# Altium footprint library POT_SMD.PcbLib: 7 footprints
Each footprint in its own frame and in the unit in brackets; x right, y up, seen from the top. Pads: shape width x height; smd on the part's side, far side on the other; paste and mask are expansions set on the pad; w line width, h text height; cw(c..) or ccw(c..) is an arc to the next point about the centre after c.
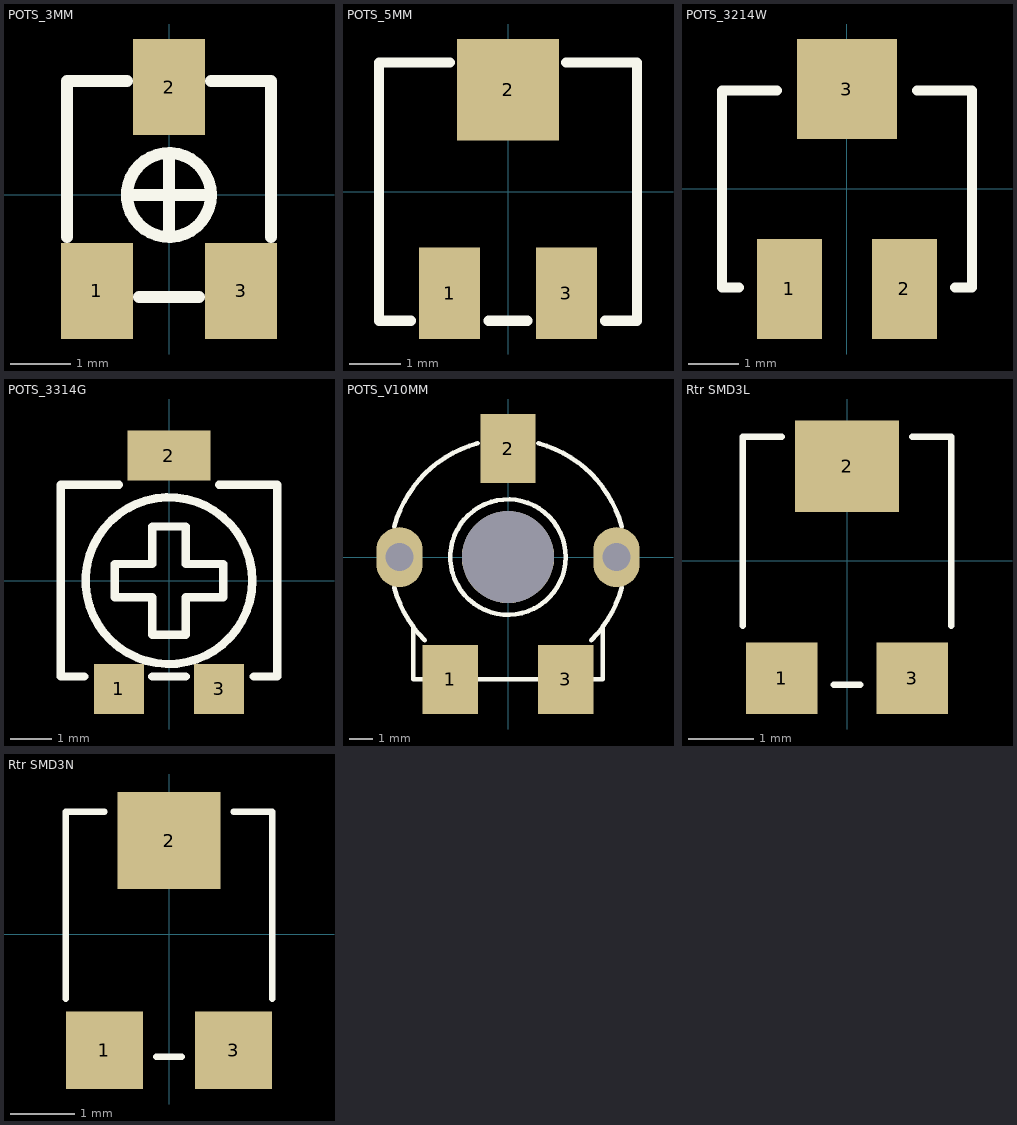
[diagram p0: the footprints below, top view; thin cyan lines are the x and y axes]

## POTS_3MM [mm] "POT SMD, 3.0X3.0mm, Trimming PVG3A PVZ3A"
pads (3):
  rect 1.2x1.6 smd: 1(-1.2,-1.6) 2(0,1.8) 3(1.2,-1.6)
Top Overlay:
  circle w0.2: c0,0 r0.7
  lines w0.2: -1.7,-0.7 -1.7,1.9 -0.7,1.9 ; -0.7,0 0.7,0 ; -0.5,-1.7 0.5,-1.7 ; 0,-0.7 0,0.7 ; 0.7,1.9 1.7,1.9 1.7,-0.7
3D body "User Library-PVZ3A.STEP": height 1.95, standoff 0, extent -1.55,-1.85 1.55,1.84

## POTS_5MM [mm] "POT SMD, 5.0X5.0mm, Trimming PVG5H"
pads (3):
  rect 1.2x1.8 smd: 1(-1.15,-2) 3(1.15,-2)
  rect 2x2 smd: 2(0,2)
Top Overlay:
  lines w0.2: -1.905,-2.54 -2.54,-2.54 -2.54,2.54 -1.143,2.54 ; -0.381,-2.54 0.381,-2.54 ; 1.143,2.54 2.54,2.54 2.54,-2.54 1.905,-2.54
3D body "User Library-PVG5H.STEP": height 3.7, standoff 0, extent -2.4,-2.55 2.4,2.55

## POTS_3214W [mm] "POT SMD, 4.0X5.0mm, Trimming SM-42/43W 3214W"
pads (3):
  rect 1.3x2 smd: 1(-1.15,-2) 2(1.15,-2)
  rect 2x2 smd: 3(0,2)
Top Overlay:
  lines w0.2: -2.159,-1.97 -2.5,-1.97 -2.5,1.97 -1.397,1.97 ; 1.397,1.97 2.5,1.97 2.5,-1.97 2.159,-1.97
3D body "SW3dPS-Pot 3214.STEP": height 5.4, standoff 0, extent -2.4,-1.97 2.4,1.97

## POTS_3314G [mm] "POT SMD, 5.0X5.0mm, Trimming, 3314G"
pads (3):
  rect 1.2x1.2 smd: 1(-1.2,-2.6) 3(1.2,-2.6)
  rect 2x1.2 smd: 2(0,3)
Top Overlay:
  circle w0.2: c0,0 r2
  lines w0.2: -1.3,-0.4 -0.4,-0.4 -0.4,-1.3 0.4,-1.3 0.4,-0.4 1.3,-0.4 1.3,0.4 0.4,0.4 0.4,1.3 -0.4,1.3 -0.4,0.4 -1.3,0.4 -1.3,-0.4
  lines w0.203: -2.032,-2.3 -2.6,-2.3 -2.6,2.3 -1.2,2.3 ; -0.4,-2.3 0.4,-2.3 ; 1.2,2.3 2.6,2.3 2.6,-2.3 2.032,-2.3
3D body "3314g-1-104e.stp": height 2.67, standoff -0.06, extent -2.451,-2.925 2.548,3.272

## POTS_V10MM [mm] "POT, TRIM, V-10 10mm SMD"
pads (6):
  rect 2.4x3 smd: 1(-2.5,-5.3) 2(0,4.7) 3(2.5,-5.3)
  oval 2x2.6 hole 1.2: ""(-4.7,0) ""(4.7,0)
  round 4 hole 4 unplated mask+0.1: ""(0,0)
Top Overlay:
  circle w0.2: c0,0 r2.5
  lines w0.2: -4.926,-1.32 ccw(c0,0) -3.606,-3.606 ; -4.926,1.32 cw(c0,0) -1.32,4.926 ; -4.1,-3 -4.1,-5.3 -3.7,-5.3 ; -1.4,-5.3 1.3,-5.3 ; 1.32,4.926 cw(c0,0) 4.926,1.32 ; 3.606,-3.606 ccw(c0,0) 4.926,-1.32 ; 3.7,-5.3 4.1,-5.3 4.1,-3
3D body "User Library-Trimpot V60.step": height 5.7, standoff -0.85, extent -5.15,-5.742 5.15,5.15

## Rtr SMD3L [mm]
pads (3):
  rect 1.1x1.1 smd: 1(-1,-1.8) 3(1,-1.8)
  rect 1.6x1.4 smd: 2(0,1.45)
Top Overlay:
  lines w0.1: -1.6,-1 -1.6,1.9 -1,1.9 ; -0.2,-1.9 0.2,-1.9 ; 1,1.9 1.6,1.9 1.6,-1
3D body "R tr PVZ3A.STEP": height 1.95, standoff 0, extent -1.55,-1.85 1.55,1.84

## Rtr SMD3N [mm]
pads (3):
  rect 1.2x1.2 smd: 1(-1,-1.8) 3(1,-1.8)
  rect 1.6x1.5 smd: 2(0,1.45)
Top Overlay:
  lines w0.1: -1.6,-1 -1.6,1.9 -1,1.9 ; -0.2,-1.9 0.2,-1.9 ; 1,1.9 1.6,1.9 1.6,-1
3D body "R tr PVZ3A.STEP": height 1.95, standoff 0, extent -1.55,-1.85 1.55,1.84